# Altium schematic symbol library LT1763_ADJ.Schlib: 1 symbol
Pins are listed as number, name and electrical type; pins without a type are passive.

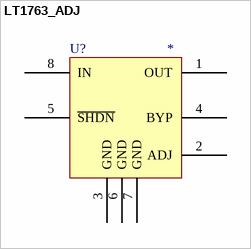
[diagram p0: symbol LT1763_ADJ]

## LT1763_ADJ
designator U?
pins: 1 OUT, 2 ADJ, 3 GND, 4 BYP, 5 ~{SHDN}, 6 GND, 7 GND, 8 IN
1 alternate drawing of the same symbol